# EAGLE library part TLV3011BQDBVRQ1 (library 911_circuits)
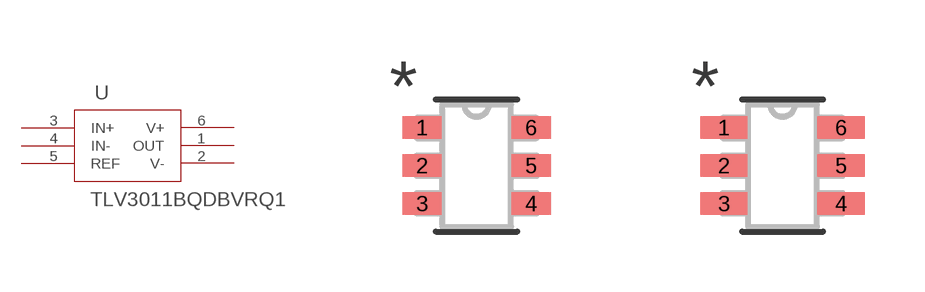
[diagram p6: symbol with the pads of DBV6_TEX; footprints DBV6_TEX, DBV6_TEX-M]

Designator prefix U

## TLV3011BQDBVRQ1 (COPYRIGHT: Copyright (C) 2024 Ultra Librarian. All rights reserved.; MANUFACTURER_PART_NUMBER: TLV3011BQDBVRQ1; MFR_NAME: Texas Instruments; TYPE: Linear)  [DBV6_TEX]
1  OUT  out
2  V-  pwr
3  IN+  in
4  IN-  in
5  REF  out
6  V+  pwr

## TLV3011BQDBVRQ1DBV6_TEX-M (COPYRIGHT: Copyright (C) 2024 Ultra Librarian. All rights reserved.; MANUFACTURER_PART_NUMBER: TLV3011BQDBVRQ1; MFR_NAME: Texas Instruments; TYPE: Linear)  [DBV6_TEX-M]
Pads as for DBV6_TEX

## TLV3011BQDBVRQ1DBV6_TEX-L (COPYRIGHT: Copyright (C) 2024 Ultra Librarian. All rights reserved.; MANUFACTURER_PART_NUMBER: TLV3011BQDBVRQ1; MFR_NAME: Texas Instruments; TYPE: Linear)  [DBV6_TEX-L]
Pads as for DBV6_TEX

## Footprint DBV6_TEX (pad centres in mm)
smd 0.978 x 0.559: 1 -1.365,0.95; 2 -1.365,0; 3 -1.365,-0.95; 4 1.365,-0.95; 5 1.365,0; 6 1.365,0.95

## Footprint DBV6_TEX-M (pad centres in mm)
smd 1.181 x 0.559: 1 -1.467,0.95; 2 -1.467,0; 3 -1.467,-0.95; 4 1.467,-0.95; 5 1.467,0; 6 1.467,0.95

## Footprint DBV6_TEX-L (pad centres in mm)
smd 0.775 x 0.508: 1 -1.264,0.95; 2 -1.264,0; 3 -1.264,-0.95; 4 1.264,-0.95; 5 1.264,0; 6 1.264,0.95